# Altium footprint library OpenECADLib-fp-0010.PcbLib: 1 footprints
Each footprint in its own frame and in the unit in brackets; x right, y up, seen from the top. Pads: shape width x height; smd on the part's side, far side on the other; paste and mask are expansions set on the pad; w line width, h text height; cw(c..) or ccw(c..) is an arc to the next point about the centre after c.
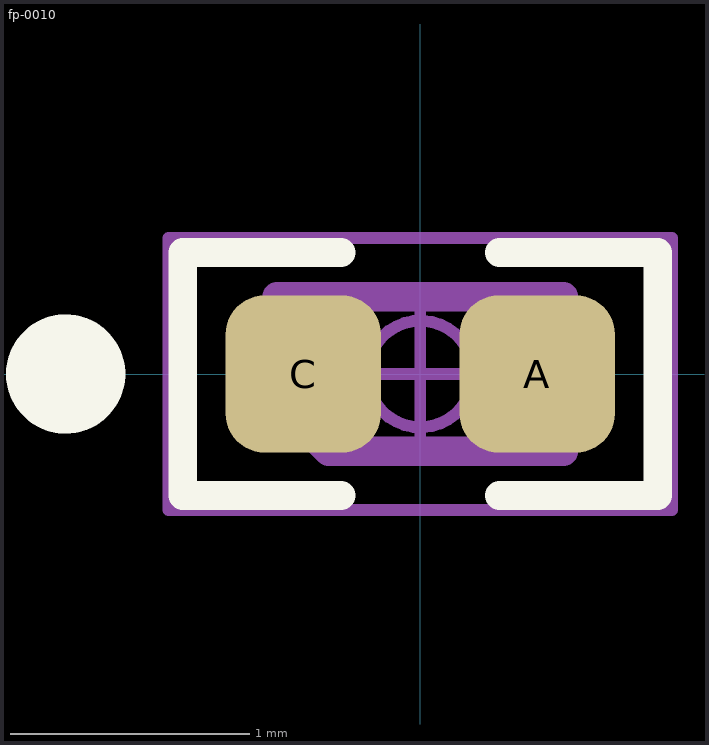
[diagram p0: the footprint, top view; thin cyan lines are the x and y axes]

## fp-0010 [mm] "LED, Chip; 1.10 mm L X 0.55 mm W X 0.60 mm H body"
height 0.6
pads (2):
  rrect50% 0.65x0.659 smd: A(0.49,0) C(-0.49,0)
Top Overlay:
  circle w0.25: c-1.485,0 r0.125
  lines w0.12: -0.332,-0.509 -0.995,-0.509 -0.995,0.509 -0.332,0.509 ; 0.332,-0.509 0.995,-0.509 0.995,0.509 0.332,0.509
Top Assembly:
  lines w0.12: -0.6,-0.108 -0.383,-0.325 0.6,-0.325 0.6,0.325 -0.6,0.325 -0.6,-0.108
Top Courtyard:
  circle w0.05: c0,0 r0.223
  lines w0.05: -0.297,0 0.297,0 ; 0,-0.297 0,0.297 ; -1.055,-0.57 1.055,-0.57 1.055,0.57 -1.055,0.57 -1.055,-0.57
Top Component Outline (Mech15):
  lines w0.025: -0.55,-0.275 0.55,-0.275 ; -0.55,-0.275 -0.55,0.275 ; -0.55,-0.275 -0.55,0.275 ; -0.55,-0.275 -0.25,-0.275 -0.25,0.275 -0.55,0.275 ; -0.55,0.275 0.55,0.275 ; 0.55,-0.275 0.55,0.275 ; 0.55,-0.275 0.25,-0.275 0.25,0.275 0.55,0.275 ; 0.55,-0.275 0.55,0.275
Top Designator:
  text ".Designator" at -2.477,-0.209 h1
3D body "3d-0010.step": height 0.5, standoff 0, extent -0.5,-0.25 0.5,0.25